# Altium footprint library Connectors.PcbLib: 77 footprints (part 5 of 5)
Each footprint in its own frame and in the unit in brackets; x right, y up, seen from the top. Pads: shape width x height; smd on the part's side, far side on the other; paste and mask are expansions set on the pad; w line width, h text height; cw(c..) or ccw(c..) is an arc to the next point about the centre after c.
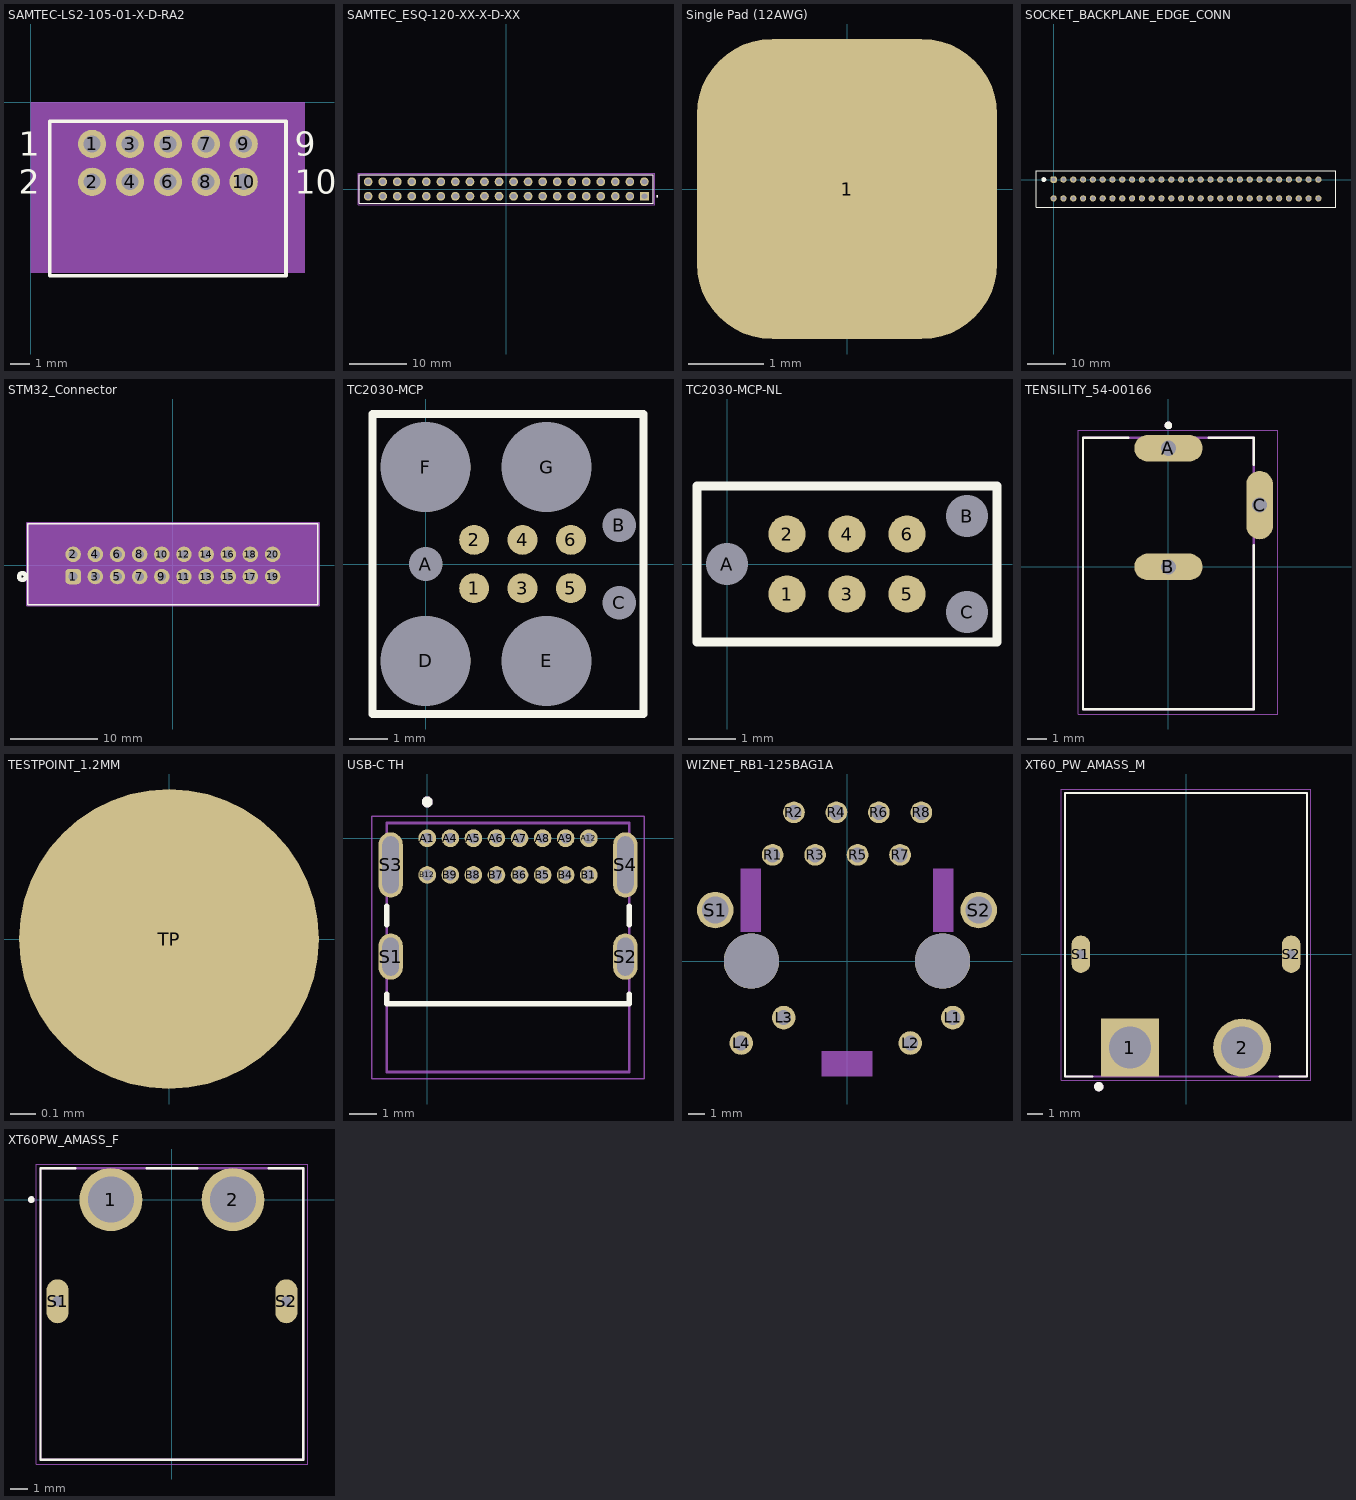
[diagram p4: the footprints below, top view; thin cyan lines are the x and y axes]

## SAMTEC-LS2-105-01-X-D-RA2 [mm]
pads (10):
  round 1.49 hole 0.89 mask+0: 1(3.239,-2.191) 2(3.239,-4.191) 3(5.239,-2.191) 4(5.239,-4.191) 5(7.239,-2.191) 6(7.239,-4.191) 7(9.239,-2.191) 8(9.239,-4.191) 9(11.239,-2.191) 10(11.239,-4.191)
Top Overlay:
  lines w0.2: 1.007,-9.144 13.471,-9.144 13.471,-0.995 1.007,-0.995 1.007,-9.144
  text "10" at 13.939,-4.826 h1.27
  text "9" at 13.939,-2.826 h1.27
  text "2" at -0.617,-4.826 h1.27
  text "1" at -0.617,-2.826 h1.27
Top Solder:
  circle w0: c11.239,-4.191 r0.796
  circle w0: c11.239,-2.191 r0.796
  circle w0: c9.239,-4.191 r0.796
  circle w0: c9.239,-2.191 r0.796
  circle w0: c7.239,-4.191 r0.796
  circle w0: c7.239,-2.191 r0.796
  circle w0: c5.239,-4.191 r0.796
  circle w0: c5.239,-2.191 r0.796
  circle w0: c3.239,-4.191 r0.796
  circle w0: c3.239,-2.191 r0.796
Bottom Solder:
  circle w0: c11.239,-4.191 r0.796
  circle w0: c11.239,-2.191 r0.796
  circle w0: c9.239,-4.191 r0.796
  circle w0: c9.239,-2.191 r0.796
  circle w0: c7.239,-4.191 r0.796
  circle w0: c7.239,-2.191 r0.796
  circle w0: c5.239,-4.191 r0.796
  circle w0: c5.239,-2.191 r0.796
  circle w0: c3.239,-4.191 r0.796
  circle w0: c3.239,-2.191 r0.796
Mechanical 1:
  lines w0.1: 7.239,-4.191 9.239,-4.191
Mechanical 15:
  region: 14.468,-8.997 0.01,-8.997 0,0 14.468,0.002
3D body "LS2-105-01-L-D-RA2.stp": height 5.29, standoff -2.27, extent 1.524,-12.409 13.089,-2.032
3D body: height 4.92, standoff -2.64, extent 8.202,-4.257 9.239,-4.191

## SAMTEC_ESQ-120-XX-X-D-XX [mm]
height 13.84
pads (40):
  rect 1.53x1.53 / inner round 1.53 / far side rect 1.53x1.53 hole 1.02: 01(24.13,-1.27)
  round 1.53 hole 1.02: 02(24.13,1.27) 03(21.59,-1.27) 04(21.59,1.27) 05(19.05,-1.27) 06(19.05,1.27) 07(16.51,-1.27) 08(16.51,1.27) 09(13.97,-1.27) 10(13.97,1.27) 11(11.43,-1.27) 12(11.43,1.27) 13(8.89,-1.27) 14(8.89,1.27) 15(6.35,-1.27) 16(6.35,1.27) 17(3.81,-1.27) 18(3.81,1.27) 19(1.27,-1.27) 20(1.27,1.27) 21(-1.27,-1.27) 22(-1.27,1.27) 23(-3.81,-1.27) 24(-3.81,1.27) 25(-6.35,-1.27) 26(-6.35,1.27) 27(-8.89,-1.27) 28(-8.89,1.27) 29(-11.43,-1.27) 30(-11.43,1.27) 31(-13.97,-1.27) 32(-13.97,1.27) 33(-16.51,-1.27) 34(-16.51,1.27) 35(-19.05,-1.27) 36(-19.05,1.27) 37(-21.59,-1.27) 38(-21.59,1.27) 39(-24.13,-1.27) 40(-24.13,1.27)
Top Overlay:
  circle w0.2: c26.405,-1.27 r0.1
  lines w0.2: -25.655,-2.475 25.655,-2.475 25.655,2.475 -25.655,2.475 -25.655,-2.475
Mechanical 13:
  circle w0.2: c26.405,-1.27 r0.1
  lines w0.1: -25.655,-2.475 25.655,-2.475 25.655,2.475 -25.655,2.475 -25.655,-2.475
Mechanical 15:
  lines w0.05: -25.905,-2.725 -25.905,2.725 25.905,2.725 25.905,-2.725 -25.905,-2.725
3D body "ESQ-120-33-T-D.stp": height 16.14, standoff -2.27, extent -25.654,-2.54 25.654,2.54

## Single Pad (12AWG) [mm] "DO NOT USE"
pads (1):
  rrect50% 4x4 smd: 1(0,0)

## SOCKET_BACKPLANE_EDGE_CONN [mm]
pads (56):
  rrect50% 1.62x1.62 hole 1.02: 1(0,0)
  round 1.62 hole 1.02: 2(2.54,0) 3(5.08,0) 4(7.62,0) 5(10.16,0) 6(12.7,0) 7(15.24,0) 8(17.78,0) 9(20.32,0) 10(22.86,0) 11(25.4,0) 12(27.94,0) 13(30.48,0) 14(33.02,0) 15(35.56,0) 16(38.1,0) 17(40.64,0) 18(43.18,0) 19(45.72,0) 20(48.26,0) 21(50.8,0) 22(53.34,0) 23(55.88,0) 24(58.42,0) 25(60.96,0) 26(63.5,0) 27(66.04,0) 28(68.58,0) 29(68.58,-4.851) 30(66.04,-4.851) 31(63.5,-4.851) 32(60.96,-4.851) 33(58.42,-4.851) 34(55.88,-4.851) 35(53.34,-4.851) 36(50.8,-4.851) 37(48.26,-4.851) 38(45.72,-4.851) 39(43.18,-4.851) 40(40.64,-4.851) 41(38.1,-4.851) 42(35.56,-4.851) 43(33.02,-4.851) 44(30.48,-4.851) 45(27.94,-4.851) 46(25.4,-4.851) 47(22.86,-4.851) 48(20.32,-4.851) 49(17.78,-4.851) 50(15.24,-4.851) 51(12.7,-4.851) 52(10.16,-4.851) 53(7.62,-4.851) 54(5.08,-4.851) 55(2.54,-4.851) 56(0,-4.851)
Top Overlay:
  circle w0.762: c-2.54,0 r0.254
  lines w0.127: -4.572,-7.099 -4.572,2.248 73.152,2.248 73.152,-7.099 -4.572,-7.099
3D body "c-5530843-6-f-3d.stp": height 15.51, standoff -3.16, extent -4.572,-7.099 73.152,2.248

## STM32_Connector [mil]
pads (20):
  rrect50% 70x70 hole 40 paste-99999 mask+0: 1(-450,-50)
  round 70 hole 40 paste-99999 mask+0: 2(-450,50) 3(-350,-50) 4(-350,50) 5(-250,-50) 6(-250,50) 7(-150,-50) 8(-150,50) 9(-50,-50) 10(-50,50) 11(50,-50) 12(50,50) 13(150,-50) 14(150,50) 15(250,-50) 16(250,50) 17(350,-50) 18(350,50) 19(450,-50) 20(450,50)
Top Overlay:
  circle w20: c-679.5,-50 r15
  lines w6: -654.5,-177.93 -654.5,188.07 654.5,188.07 654.5,-177.93 -654.5,-177.93
Bottom Overlay:
  circle w20: c-679.5,-50 r15
Mechanical 13:
  circle w20: c-450,-125 r15
  lines w1: -649.5,-172.93 -649.5,183.07 649.5,183.07 649.5,-172.93 -649.5,-172.93
Mechanical 15:
  region: 659.5,196 -659.5,196 -659.5,-180 659.5,-180
  lines w6: -659.5,-182.93 659.5,-182.93 659.5,193.07 -659.5,193.07 -659.5,-182.93

## TC2030-MCP [mil]
pads (13):
  round 31 smd: 1(50,-25) 2(50,25) 3(100,-25) 4(100,25) 5(150,-25) 6(150,25)
  round 34 hole 35 unplated: A(0,0) B(200,40) C(200,-40)
  round 92 hole 93 unplated: D(0,-100) E(125,-100) F(0,100) G(125,100)
Top Overlay:
  lines w7.87: -55,-155 -55,155 225,155 225,-155 -55,-155

## TC2030-MCP-NL [mil]
pads (9):
  round 31 smd: 1(50,-25) 2(50,25) 3(100,-25) 4(100,25) 5(150,-25) 6(150,25)
  round 34 hole 35 unplated: A(0,0) B(200,40) C(200,-40)
Top Overlay:
  lines w7.87: -25,-65 -25,65 225,65 225,-65 -25,-65

## TENSILITY_54-00166 [mm]
height 11.2
pads (3):
  oval 3.6x1.4 hole 0.8 square mask+0.05: A(0,6.25) B(0,0)
  oval 1.4x3.6 hole 0.8 square mask+0.05: C(4.8,3.25)
Top Overlay:
  circle w0.2: c0,7.45 r0.1
  lines w0.127: -2.12,6.8 -4.5,6.8 -4.5,-7.5 4.5,-7.5 4.5,1.13 ; 2.12,6.8 4.5,6.8 4.5,5.37
Mechanical 13:
  circle w0.2: c0,7.45 r0.1
  lines w0.127: -4.5,-7.5 4.5,-7.5 4.5,6.8 -4.5,6.8 -4.5,-7.5
Mechanical 15:
  lines w0.05: -4.75,-7.75 -4.75,7.2 5.75,7.2 5.75,-7.75 -4.75,-7.75
3D body "step_temp.STEP": height 11, standoff -3.6, extent -4.496,-7.569 5.004,6.731

## TESTPOINT_1.2MM [mm]
pads (1):
  round 1.2 smd: TP(0,0)

## USB-C TH [mm]
pads (20):
  round 0.65 hole 0.4: A1(0,0) A4(0.85,0) A5(1.7,0) A6(2.55,0) A7(3.4,0) A8(4.25,0) A9(5.1,0) A12(5.95,0) B1(5.95,-1.35) B4(5.1,-1.35) B5(4.25,-1.35) B6(3.4,-1.35) B7(2.55,-1.35) B8(1.7,-1.35) B9(0.85,-1.35) B12(0,-1.35)
  oval 0.9x1.7 hole 0.6 slot 1.4 at 90 deg: S1(-1.35,-4.36) S2(7.3,-4.36)
  oval 0.9x2.4 hole 0.6 slot 2.1 at 90 deg: S3(-1.35,-0.98) S4(7.3,-0.98)
Top Overlay:
  circle w0.2: c0,1.34 r0.1
  lines w0.2: -1.495,-5.75 -1.495,-6.1 7.445,-6.1 7.445,-5.75 ; -1.495,-3.19 -1.495,-2.51 ; 7.445,-3.19 7.445,-2.51
Mechanical 13:
  circle w0.2: c0,1.34 r0.1
  lines w0.1: -1.495,-8.61 -1.495,-6.1 -1.495,0.56 7.445,0.56 7.445,-8.61 -1.495,-8.61
Mechanical 15:
  lines w0.05: -2.05,-8.86 -2.05,0.81 8,0.81 8,-8.86 -2.05,-8.86
3D body "step_temp.STEP": height 3.46, standoff -2.1, extent -1.495,-8.61 7.445,0.56

## WIZNET_RB1-125BAG1A [mm]
pads (16):
  round 1.408 hole 0.9: L1(6.325,-3.38) L2(3.784,-4.899) L3(-3.786,-3.379) L4(-6.325,-4.9)
  round 1.3 hole 0.9: R1(-4.446,6.349) R2(-3.176,8.889) R3(-1.906,6.349) R4(-0.636,8.889) R5(0.634,6.349) R6(1.904,8.889) R7(3.174,6.349) R8(4.444,8.889)
  round 2.184 hole 1.6: S1(-7.876,3.049) S2(7.874,3.049)
  round 3.3 hole 3.3 unplated: ""(-5.716,-0.001) ""(5.714,-0.001)
Mechanical 13:
  region: 1.5,-6.9 -1.5,-6.9 -1.5,-5.4 1.5,-5.4
  region: 6.348,1.756 5.156,1.756 5.156,5.528 6.348,5.528
  region: -5.15,1.756 -6.36,1.756 -6.36,5.528 -5.15,5.528
3D body "RB1-125BAG1A--3DModel-STEP-56544.STEP": height 14.36, standoff -3.34, extent -8.875,-10.922 8.875,10.858

## XT60_PW_AMASS_M [mm] "XT60 60A RIGHT ANGLE MALE"
pads (4):
  rect 3.716x3.716 hole 2.7: 1(-3.6,-6)
  round 3.716 hole 2.7: 2(3.6,-6)
  oval 1.2x2.4 hole 0.6 square: S1(-6.75,0) S2(6.75,0)
Top Overlay:
  circle w0.3: c-5.6,-8.5 r0.15
  lines w0.127: -6,-7.85 -7.75,-7.85 -7.75,10.35 7.75,10.35 7.75,-7.85 6,-7.85
Mechanical 13:
  circle w0.3: c-5.6,-8.5 r0.15
  lines w0.127: -7.75,-7.85 -7.75,10.35 7.75,10.35 7.75,-7.85 -7.75,-7.85
Mechanical 15:
  lines w0.05: -8,-8.1 8,-8.1 8,10.6 -8,10.6 -8,-8.1
3D body "XT60PW_RightAngle_M.STEP": height 8.52, standoff -2.43, extent -7.753,-7.874 7.747,10.326

## XT60PW_AMASS_F [mm] "XT60_AMASS_F"
pads (4):
  round 3.716 hole 2.7: 1(-3.6,0) 2(3.6,0)
  oval 1.3x2.6 hole 0.6 square: S1(-6.75,-6) S2(6.75,-6)
Top Overlay:
  circle w0.2: c-8.3,0 r0.1
  lines w0.127: -5.71,1.85 -7.75,1.85 -7.75,-15.35 7.75,-15.35 7.75,1.85 5.71,1.85 ; -1.49,1.85 1.49,1.85
Mechanical 13:
  circle w0.2: c-8.3,0 r0.1
  lines w0.127: -7.75,-15.35 7.75,-15.35 7.75,1.85 -7.75,1.85 -7.75,-15.35
Mechanical 15:
  lines w0.05: -8,-15.6 8,-15.6 8,2.1 -8,2.1 -8,-15.6
3D body "XT60PW_RightAngle_F.STEP": height 2.1, standoff -8.85, extent -7.75,-15.367 7.75,1.833